# EAGLE library part ELE02_BLUE_PILL (library ele02)
Placa Blue Pill STM 32
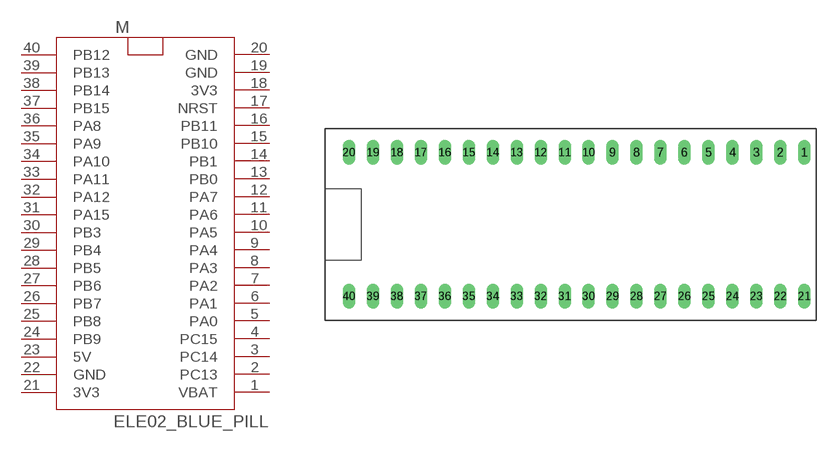
[diagram p1: symbol with the pads of ELE02_BLUE_PILL; footprint ELE02_BLUE_PILL]

Designator prefix M

## ELE02_BLUE_PILL  [ELE02_BLUE_PILL]
1  VBAT
2  PC13
3  PC14  nc
4  PC15  nc
5  PA0
6  PA1
7  PA2
8  PA3
9  PA4
10  PA5
11  PA6
12  PA7
13  PB0
14  PB1
15  PB10
16  PB11
17  NRST  nc
18  3V3
19  GND
20  GND  nc
21  3V3
22  GND
23  5V
24  PB9
25  PB8
26  PB7
27  PB6
28  PB5
29  PB4
30  PB3
31  PA15
32  PA12  nc
33  PA11  nc
34  PA10
35  PA9
36  PA8
37  PB15
38  PB14
39  PB13
40  PB12

## Footprint ELE02_BLUE_PILL (pad centres in mm)
Placa Blue Pill STM32
drill 0.813 long: 1 49.53,12.7; 2 46.99,12.7; 3 44.45,12.7; 4 41.91,12.7; 5 39.37,12.7; 6 36.83,12.7; 7 34.29,12.7; 8 31.75,12.7; 9 29.21,12.7; 10 26.67,12.7; 11 24.13,12.7; 12 21.59,12.7; 13 19.05,12.7; 14 16.51,12.7; 15 13.97,12.7; 16 11.43,12.7; 17 8.89,12.7; 18 6.35,12.7; 19 3.81,12.7; 20 1.27,12.7; 21 49.53,-2.54; 22 46.99,-2.54; 23 44.45,-2.54; 24 41.91,-2.54; 25 39.37,-2.54; 26 36.83,-2.54; 27 34.29,-2.54; 28 31.75,-2.54; 29 29.21,-2.54; 30 26.67,-2.54; 31 24.13,-2.54; 32 21.59,-2.54; 33 19.05,-2.54; 34 16.51,-2.54; 35 13.97,-2.54; 36 11.43,-2.54; 37 8.89,-2.54; 38 6.35,-2.54; 39 3.81,-2.54; 40 1.27,-2.54